# EAGLE library part MCP42100 (library elements_cs2016)
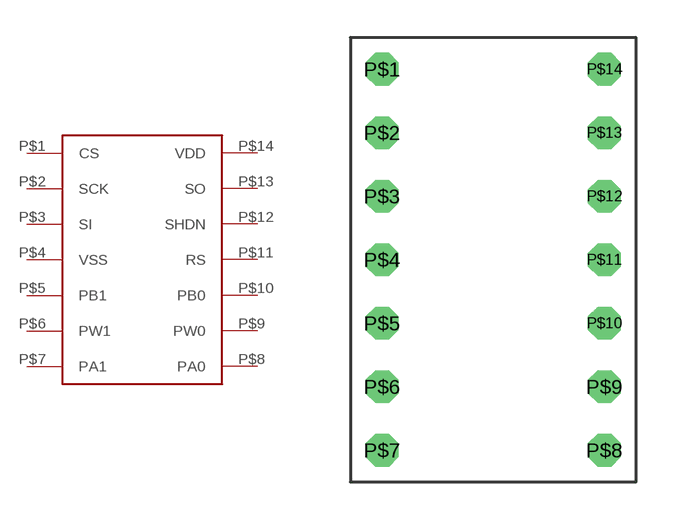
[diagram p6: symbol with the pads of MCP42100; footprint MCP42100]

Designator prefix -

## MCP42100  [MCP42100]
P$1  CS
P$2  SCK
P$3  SI
P$4  VSS
P$5  PB1
P$6  PW1
P$7  PA1
P$8  PA0
P$9  PW0
P$10  PB0
P$11  RS
P$12  SHDN
P$13  SO
P$14  VDD

## Footprint MCP42100 (pad centres in mm)
drill 0.8 octagon: P$1 0,0; P$2 0,-2.54; P$3 0,-5.08; P$4 0,-7.62; P$5 0,-10.16; P$6 0,-12.7; P$7 0,-15.24; P$8 8.89,-15.24; P$9 8.89,-12.7; P$10 8.89,-10.16; P$11 8.89,-7.62; P$12 8.89,-5.08; P$13 8.89,-2.54; P$14 8.89,0